# EAGLE library part LPC2148FBD64,151 (library NXP_By_element14_Batch_1)
MCU
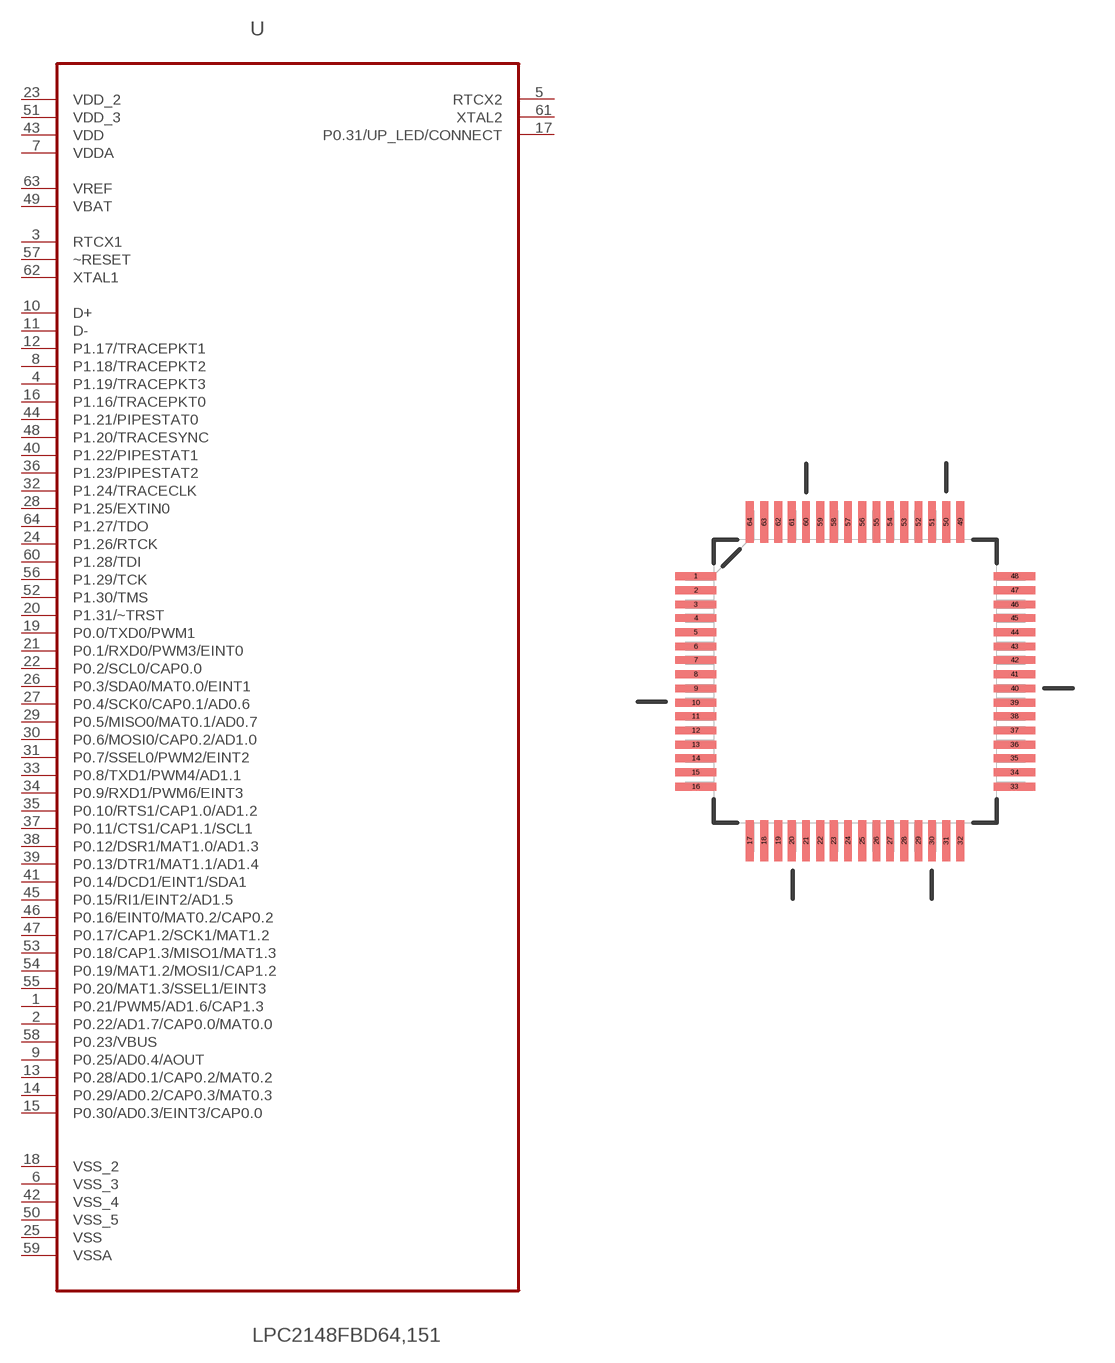
[diagram p374: symbol with the pads of QFP50P1200X1200X160-64N; footprint QFP50P1200X1200X160-64N]

Designator prefix U

## LPC2148FBD64,151 (MPN: LPC2148FBD64,151; OC_FARNELL: 1831181; OC_NEWARK: 70R5631; P1I: o; PACKAGE: LQFP-64; SUPPLIER: NXP)  [QFP50P1200X1200X160-64N]
1  P0.21/PWM5/AD1.6/CAP1.3
2  P0.22/AD1.7/CAP0.0/MAT0.0
3  RTCX1  in
4  P1.19/TRACEPKT3
5  RTCX2  out
6  VSS_3  pas
7  VDDA  pwr
8  P1.18/TRACEPKT2
9  P0.25/AD0.4/AOUT
10  D+
11  D-
12  P1.17/TRACEPKT1
13  P0.28/AD0.1/CAP0.2/MAT0.2
14  P0.29/AD0.2/CAP0.3/MAT0.3
15  P0.30/AD0.3/EINT3/CAP0.0
16  P1.16/TRACEPKT0
17  P0.31/UP_LED/CONNECT  out
18  VSS_2  pas
19  P0.0/TXD0/PWM1
20  P1.31/~TRST
21  P0.1/RXD0/PWM3/EINT0
22  P0.2/SCL0/CAP0.0
23  VDD_2  pwr
24  P1.26/RTCK
25  VSS  pas
26  P0.3/SDA0/MAT0.0/EINT1
27  P0.4/SCK0/CAP0.1/AD0.6
28  P1.25/EXTIN0
29  P0.5/MISO0/MAT0.1/AD0.7
30  P0.6/MOSI0/CAP0.2/AD1.0
31  P0.7/SSEL0/PWM2/EINT2
32  P1.24/TRACECLK
33  P0.8/TXD1/PWM4/AD1.1
34  P0.9/RXD1/PWM6/EINT3
35  P0.10/RTS1/CAP1.0/AD1.2
36  P1.23/PIPESTAT2
37  P0.11/CTS1/CAP1.1/SCL1
38  P0.12/DSR1/MAT1.0/AD1.3
39  P0.13/DTR1/MAT1.1/AD1.4
40  P1.22/PIPESTAT1
41  P0.14/DCD1/EINT1/SDA1
42  VSS_4  pas
43  VDD  pwr
44  P1.21/PIPESTAT0
45  P0.15/RI1/EINT2/AD1.5
46  P0.16/EINT0/MAT0.2/CAP0.2
47  P0.17/CAP1.2/SCK1/MAT1.2
48  P1.20/TRACESYNC
49  VBAT  pwr
50  VSS_5  pas
51  VDD_3  pwr
52  P1.30/TMS
53  P0.18/CAP1.3/MISO1/MAT1.3
54  P0.19/MAT1.2/MOSI1/CAP1.2
55  P0.20/MAT1.3/SSEL1/EINT3
56  P1.29/TCK
57  ~RESET  in
58  P0.23/VBUS
59  VSSA  pas
60  P1.28/TDI
61  XTAL2  out
62  XTAL1  in
63  VREF  pwr
64  P1.27/TDO

## Footprint QFP50P1200X1200X160-64N (pad centres in mm)
smd 1.473 x 0.279: 1 -5.69,3.759; 2 -5.69,3.251; 3 -5.69,2.743; 4 -5.69,2.261; 5 -5.69,1.753; 6 -5.69,1.245; 7 -5.69,0.762; 8 -5.69,0.254; 9 -5.69,-0.254; 10 -5.69,-0.762; 11 -5.69,-1.245; 12 -5.69,-1.753; 13 -5.69,-2.261; 14 -5.69,-2.743; 15 -5.69,-3.251; 16 -5.69,-3.759; 33 5.69,-3.759; 34 5.69,-3.251; 35 5.69,-2.743; 36 5.69,-2.261; 37 5.69,-1.753; 38 5.69,-1.245; 39 5.69,-0.762; 40 5.69,-0.254; 41 5.69,0.254; 42 5.69,0.762; 43 5.69,1.245; 44 5.69,1.753; 45 5.69,2.261; 46 5.69,2.743; 47 5.69,3.251; 48 5.69,3.759
smd 0.279 x 1.473: 17 -3.759,-5.69; 18 -3.251,-5.69; 19 -2.743,-5.69; 20 -2.261,-5.69; 21 -1.753,-5.69; 22 -1.245,-5.69; 23 -0.762,-5.69; 24 -0.254,-5.69; 25 0.254,-5.69; 26 0.762,-5.69; 27 1.245,-5.69; 28 1.753,-5.69; 29 2.261,-5.69; 30 2.743,-5.69; 31 3.251,-5.69; 32 3.759,-5.69; 49 3.759,5.69; 50 3.251,5.69; 51 2.743,5.69; 52 2.261,5.69; 53 1.753,5.69; 54 1.245,5.69; 55 0.762,5.69; 56 0.254,5.69; 57 -0.254,5.69; 58 -0.762,5.69; 59 -1.245,5.69; 60 -1.753,5.69; 61 -2.261,5.69; 62 -2.743,5.69; 63 -3.251,5.69; 64 -3.759,5.69